# Altium schematic symbol library Chip_kz85.SchLib: 319 symbols (part 4 of 5)
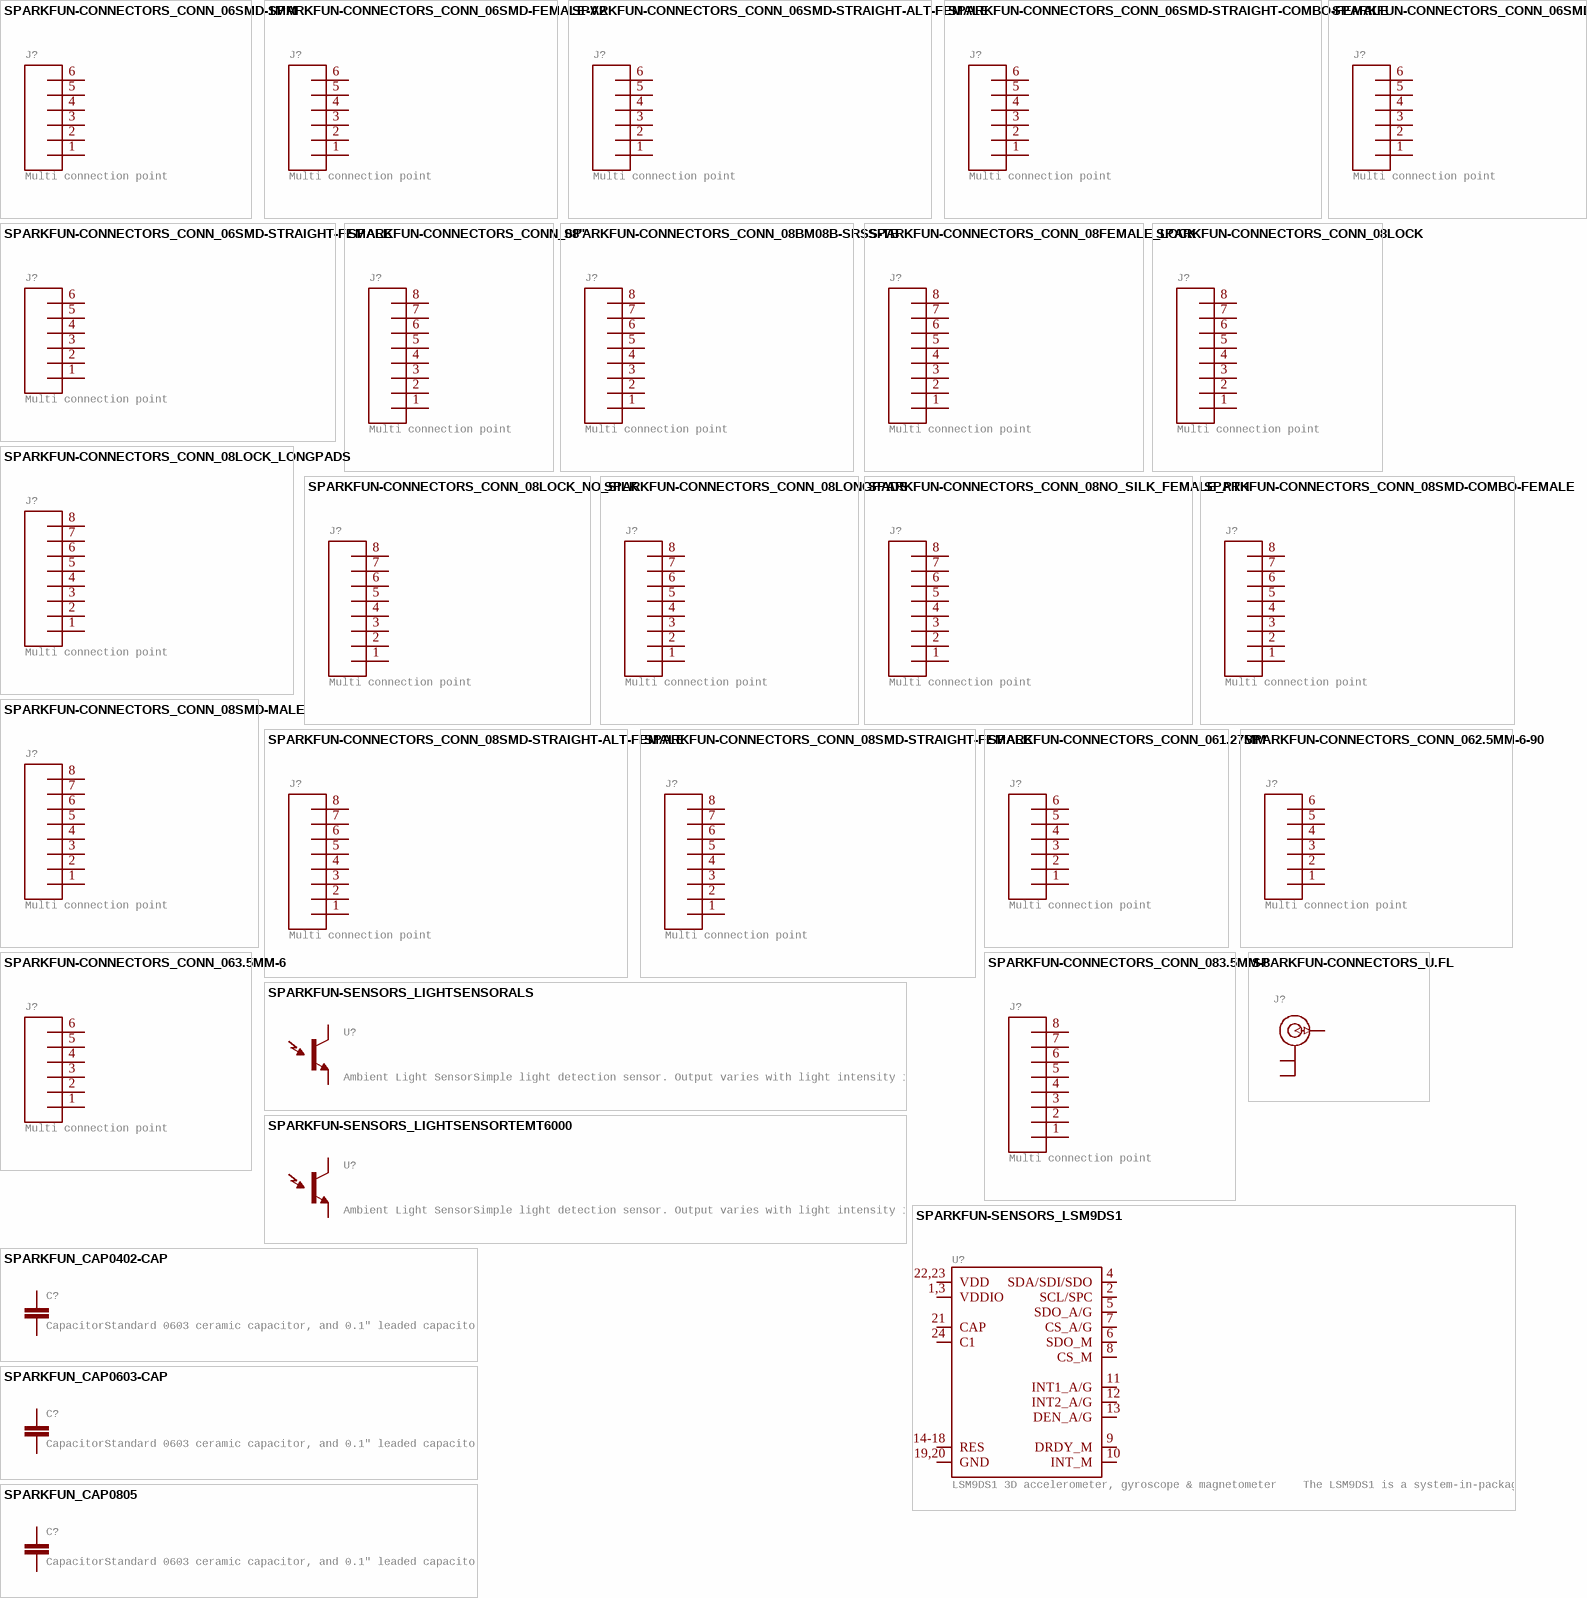
[diagram p14: symbols SPARKFUN-CONNECTORS_CONN_06SMD-1MM to SPARKFUN_CAP0805]

## SPARKFUN-CONNECTORS_CONN_06SMD-FEMALE-V2
designator J?, comment Multi connection point. Often used as Generic Header-pin footprint for 0.1 inch spaced/style header connections    On any of the 0.1 inch spaced packages, you can populate with these:  Break Away Headers - Straight (PRT-00116)   Break Away Male Headers - Right Angle (PRT-00553)   Female Headers (PRT-00115)   Break Away Headers - Machine Pin (PRT-00117)   Break Away Female Headers - Swiss Machine Pin (PRT-00743)   Arduino Stackable Header - 6 Pin (PRT-09280)        For SCREWTERMINALS and SPRING TERMINALS visit here:  Screw Terimnals on SparkFun.com (5mm/3.5mm/2.54mm spacing)       This device is also useful as a general connection point to wire up your design to another part of your project. Our various solder wires solder well into these plated through hole pads.  Hook-Up Wire - Assortment (Stranded, 22 AWG) (PRT-11375)   Hook-Up Wire - Assortment (Solid Core, 22 AWG) (PRT-11367)   View the entire wire category on our website here
GateName_1: G$1; SymbolName_1: SPARKFUN-CONNECTORS_CONN_06; DeviceName: SMD-FEMALE-V2; PROD_ID: CONN-09668; LibraryName: AmbaSat-1v1-01-NO-solar; DeviceSetName: SPARKFUN-CONNECTORS_CONN_06; Package: SPARKFUN-CONNECTORS_1X06-SMD-FEMALE
footprint SPARKFUN-CONNECTORS_1X06-SMD-FEMALE
pins: 1, 2, 3, 4, 5, 6

## SPARKFUN-CONNECTORS_CONN_06SMD-STRAIGHT-ALT-FEMALE
designator J?, comment Multi connection point. Often used as Generic Header-pin footprint for 0.1 inch spaced/style header connections    On any of the 0.1 inch spaced packages, you can populate with these:  Break Away Headers - Straight (PRT-00116)   Break Away Male Headers - Right Angle (PRT-00553)   Female Headers (PRT-00115)   Break Away Headers - Machine Pin (PRT-00117)   Break Away Female Headers - Swiss Machine Pin (PRT-00743)   Arduino Stackable Header - 6 Pin (PRT-09280)        For SCREWTERMINALS and SPRING TERMINALS visit here:  Screw Terimnals on SparkFun.com (5mm/3.5mm/2.54mm spacing)       This device is also useful as a general connection point to wire up your design to another part of your project. Our various solder wires solder well into these plated through hole pads.  Hook-Up Wire - Assortment (Stranded, 22 AWG) (PRT-11375)   Hook-Up Wire - Assortment (Solid Core, 22 AWG) (PRT-11367)   View the entire wire category on our website here
GateName_1: G$1; SymbolName_1: SPARKFUN-CONNECTORS_CONN_06; DeviceName: SMD-STRAIGHT-ALT-FEMALE; PROD_ID: CONN-10203; LibraryName: AmbaSat-1v1-01-NO-solar; DeviceSetName: SPARKFUN-CONNECTORS_CONN_06; Package: SPARKFUN-CONNECTORS_1X06_SMD_STRAIGHT_ALT
footprint SPARKFUN-CONNECTORS_1X06_SMD_STRAIGHT_ALT
pins: 1, 2, 3, 4, 5, 6

## SPARKFUN-CONNECTORS_CONN_06SMD-STRAIGHT-COMBO-FEMALE
designator J?, comment Multi connection point. Often used as Generic Header-pin footprint for 0.1 inch spaced/style header connections    On any of the 0.1 inch spaced packages, you can populate with these:  Break Away Headers - Straight (PRT-00116)   Break Away Male Headers - Right Angle (PRT-00553)   Female Headers (PRT-00115)   Break Away Headers - Machine Pin (PRT-00117)   Break Away Female Headers - Swiss Machine Pin (PRT-00743)   Arduino Stackable Header - 6 Pin (PRT-09280)        For SCREWTERMINALS and SPRING TERMINALS visit here:  Screw Terimnals on SparkFun.com (5mm/3.5mm/2.54mm spacing)       This device is also useful as a general connection point to wire up your design to another part of your project. Our various solder wires solder well into these plated through hole pads.  Hook-Up Wire - Assortment (Stranded, 22 AWG) (PRT-11375)   Hook-Up Wire - Assortment (Solid Core, 22 AWG) (PRT-11367)   View the entire wire category on our website here
GateName_1: G$1; SymbolName_1: SPARKFUN-CONNECTORS_CONN_06; DeviceName: SMD-STRAIGHT-COMBO-FEMALE; PROD_ID: CONN-10203; LibraryName: AmbaSat-1v1-01-NO-solar; DeviceSetName: SPARKFUN-CONNECTORS_CONN_06; Package: SPARKFUN-CONNECTORS_1X06_SMD_STRAIGHT_COMBO
footprint SPARKFUN-CONNECTORS_1X06_SMD_STRAIGHT_COMBO
pins: 1, 2, 3, 4, 5, 6

## SPARKFUN-CONNECTORS_CONN_06SMD-STRAIGHT-FEMALE
designator J?, comment Multi connection point. Often used as Generic Header-pin footprint for 0.1 inch spaced/style header connections    On any of the 0.1 inch spaced packages, you can populate with these:  Break Away Headers - Straight (PRT-00116)   Break Away Male Headers - Right Angle (PRT-00553)   Female Headers (PRT-00115)   Break Away Headers - Machine Pin (PRT-00117)   Break Away Female Headers - Swiss Machine Pin (PRT-00743)   Arduino Stackable Header - 6 Pin (PRT-09280)        For SCREWTERMINALS and SPRING TERMINALS visit here:  Screw Terimnals on SparkFun.com (5mm/3.5mm/2.54mm spacing)       This device is also useful as a general connection point to wire up your design to another part of your project. Our various solder wires solder well into these plated through hole pads.  Hook-Up Wire - Assortment (Stranded, 22 AWG) (PRT-11375)   Hook-Up Wire - Assortment (Solid Core, 22 AWG) (PRT-11367)   View the entire wire category on our website here
GateName_1: G$1; SymbolName_1: SPARKFUN-CONNECTORS_CONN_06; DeviceName: SMD-STRAIGHT-FEMALE; PROD_ID: CONN-10203; LibraryName: AmbaSat-1v1-01-NO-solar; DeviceSetName: SPARKFUN-CONNECTORS_CONN_06; Package: SPARKFUN-CONNECTORS_1X06_SMD_STRAIGHT
footprint SPARKFUN-CONNECTORS_1X06_SMD_STRAIGHT
pins: 1, 2, 3, 4, 5, 6

## SPARKFUN-CONNECTORS_CONN_06SMD_MALE
designator J?, comment Multi connection point. Often used as Generic Header-pin footprint for 0.1 inch spaced/style header connections    On any of the 0.1 inch spaced packages, you can populate with these:  Break Away Headers - Straight (PRT-00116)   Break Away Male Headers - Right Angle (PRT-00553)   Female Headers (PRT-00115)   Break Away Headers - Machine Pin (PRT-00117)   Break Away Female Headers - Swiss Machine Pin (PRT-00743)   Arduino Stackable Header - 6 Pin (PRT-09280)        For SCREWTERMINALS and SPRING TERMINALS visit here:  Screw Terimnals on SparkFun.com (5mm/3.5mm/2.54mm spacing)       This device is also useful as a general connection point to wire up your design to another part of your project. Our various solder wires solder well into these plated through hole pads.  Hook-Up Wire - Assortment (Stranded, 22 AWG) (PRT-11375)   Hook-Up Wire - Assortment (Solid Core, 22 AWG) (PRT-11367)   View the entire wire category on our website here
GateName_1: G$1; SymbolName_1: SPARKFUN-CONNECTORS_CONN_06; DeviceName: SMD_MALE; PROD_ID: CONN-11293; LibraryName: AmbaSat-1v1-01-NO-solar; DeviceSetName: SPARKFUN-CONNECTORS_CONN_06; Package: SPARKFUN-CONNECTORS_1X06_SMD_MALE
footprint SPARKFUN-CONNECTORS_1X06_SMD_MALE
pins: 1, 2, 3, 4, 5, 6

## SPARKFUN-CONNECTORS_CONN_08"
designator J?, comment Multi connection point. Often used as Generic Header-pin footprint for 0.1 inch spaced/style header connections    On any of the 0.1 inch spaced packages, you can populate with these:  Break Away Headers - Straight (PRT-00116)   Break Away Male Headers - Right Angle (PRT-00553)   Female Headers (PRT-00115)   Break Away Headers - Machine Pin (PRT-00117)   Break Away Female Headers - Swiss Machine Pin (PRT-00743)   Arduino Stackable Header - 8 Pin (PRT-09279)        For SCREWTERMINALS and SPRING TERMINALS visit here:  Screw Terimnals on SparkFun.com (5mm/3.5mm/2.54mm spacing)       This device is also useful as a general connection point to wire up your design to another part of your project. Our various solder wires solder well into these plated through hole pads.  Hook-Up Wire - Assortment (Stranded, 22 AWG) (PRT-11375)   Hook-Up Wire - Assortment (Solid Core, 22 AWG) (PRT-11367)   View the entire wire category on our website here          Special notes:     Molex polarized connector foot print use with SKU : PRT-08231 with associated crimp pins and housings. 1MM SMD Version SKU: PRT-10208    NOTES ON THE VARIANTS LOCK and LOCK_LONGPADS... This footprint was designed to help hold the alignment of a through-hole component (i.e.  6-pin header) while soldering it into place. You may notice that each hole has been shifted either up or down by 0.005 of an inch from it's more standard position (which is a perfectly straight line).  This slight alteration caused the pins (the squares in the middle) to touch the edges of the holes.  Because they are alternating, it causes a "brace" to hold the component in place.  0.005 has proven to be the perfect amount of "off-center" position when using our standard breakaway headers. Although looks a little odd when you look at the bare footprint, once you have a header in there, the alteration is very hard to notice.  Also,if you push a header all the way into place, it is covered up entirely on the bottom side.
GateName_1: G$1; SymbolName_1: SPARKFUN-CONNECTORS_CONN_08; DeviceName: "; PROD_ID: CONN-08438; LibraryName: AmbaSat-1v1-01-NO-solar; DeviceSetName: SPARKFUN-CONNECTORS_CONN_08; Package: SPARKFUN-CONNECTORS_1X08
footprint SPARKFUN-CONNECTORS_1X08
pins: 1, 2, 3, 4, 5, 6, 7, 8

## SPARKFUN-CONNECTORS_CONN_08BM08B-SRSS-TB
designator J?, comment Multi connection point. Often used as Generic Header-pin footprint for 0.1 inch spaced/style header connections    On any of the 0.1 inch spaced packages, you can populate with these:  Break Away Headers - Straight (PRT-00116)   Break Away Male Headers - Right Angle (PRT-00553)   Female Headers (PRT-00115)   Break Away Headers - Machine Pin (PRT-00117)   Break Away Female Headers - Swiss Machine Pin (PRT-00743)   Arduino Stackable Header - 8 Pin (PRT-09279)        For SCREWTERMINALS and SPRING TERMINALS visit here:  Screw Terimnals on SparkFun.com (5mm/3.5mm/2.54mm spacing)       This device is also useful as a general connection point to wire up your design to another part of your project. Our various solder wires solder well into these plated through hole pads.  Hook-Up Wire - Assortment (Stranded, 22 AWG) (PRT-11375)   Hook-Up Wire - Assortment (Solid Core, 22 AWG) (PRT-11367)   View the entire wire category on our website here          Special notes:     Molex polarized connector foot print use with SKU : PRT-08231 with associated crimp pins and housings. 1MM SMD Version SKU: PRT-10208    NOTES ON THE VARIANTS LOCK and LOCK_LONGPADS... This footprint was designed to help hold the alignment of a through-hole component (i.e.  6-pin header) while soldering it into place. You may notice that each hole has been shifted either up or down by 0.005 of an inch from it's more standard position (which is a perfectly straight line).  This slight alteration caused the pins (the squares in the middle) to touch the edges of the holes.  Because they are alternating, it causes a "brace" to hold the component in place.  0.005 has proven to be the perfect amount of "off-center" position when using our standard breakaway headers. Although looks a little odd when you look at the bare footprint, once you have a header in there, the alteration is very hard to notice.  Also,if you push a header all the way into place, it is covered up entirely on the bottom side.
GateName_1: G$1; SymbolName_1: SPARKFUN-CONNECTORS_CONN_08; DeviceName: BM08B-SRSS-TB; PROD_ID: CONN-10556; LibraryName: AmbaSat-1v1-01-NO-solar; DeviceSetName: SPARKFUN-CONNECTORS_CONN_08; Package: SPARKFUN-CONNECTORS_BM08B-SRSS-TB
footprint SPARKFUN-CONNECTORS_BM08B-SRSS-TB
pins: 1, 2, 3, 4, 5, 6, 7, 8

## SPARKFUN-CONNECTORS_CONN_08FEMALE_LOCK
designator J?, comment Multi connection point. Often used as Generic Header-pin footprint for 0.1 inch spaced/style header connections    On any of the 0.1 inch spaced packages, you can populate with these:  Break Away Headers - Straight (PRT-00116)   Break Away Male Headers - Right Angle (PRT-00553)   Female Headers (PRT-00115)   Break Away Headers - Machine Pin (PRT-00117)   Break Away Female Headers - Swiss Machine Pin (PRT-00743)   Arduino Stackable Header - 8 Pin (PRT-09279)        For SCREWTERMINALS and SPRING TERMINALS visit here:  Screw Terimnals on SparkFun.com (5mm/3.5mm/2.54mm spacing)       This device is also useful as a general connection point to wire up your design to another part of your project. Our various solder wires solder well into these plated through hole pads.  Hook-Up Wire - Assortment (Stranded, 22 AWG) (PRT-11375)   Hook-Up Wire - Assortment (Solid Core, 22 AWG) (PRT-11367)   View the entire wire category on our website here          Special notes:     Molex polarized connector foot print use with SKU : PRT-08231 with associated crimp pins and housings. 1MM SMD Version SKU: PRT-10208    NOTES ON THE VARIANTS LOCK and LOCK_LONGPADS... This footprint was designed to help hold the alignment of a through-hole component (i.e.  6-pin header) while soldering it into place. You may notice that each hole has been shifted either up or down by 0.005 of an inch from it's more standard position (which is a perfectly straight line).  This slight alteration caused the pins (the squares in the middle) to touch the edges of the holes.  Because they are alternating, it causes a "brace" to hold the component in place.  0.005 has proven to be the perfect amount of "off-center" position when using our standard breakaway headers. Although looks a little odd when you look at the bare footprint, once you have a header in there, the alteration is very hard to notice.  Also,if you push a header all the way into place, it is covered up entirely on the bottom side.
GateName_1: G$1; SymbolName_1: SPARKFUN-CONNECTORS_CONN_08; DeviceName: FEMALE_LOCK; PROD_ID: CONN-09233; LibraryName: AmbaSat-1v1-01-NO-solar; DeviceSetName: SPARKFUN-CONNECTORS_CONN_08; Package: SPARKFUN-CONNECTORS_1X08_FEMALE_LOCK; SF_ID: PRT-09279
footprint SPARKFUN-CONNECTORS_1X08_FEMALE_LOCK
pins: 1, 2, 3, 4, 5, 6, 7, 8

## SPARKFUN-CONNECTORS_CONN_08LOCK
designator J?, comment Multi connection point. Often used as Generic Header-pin footprint for 0.1 inch spaced/style header connections    On any of the 0.1 inch spaced packages, you can populate with these:  Break Away Headers - Straight (PRT-00116)   Break Away Male Headers - Right Angle (PRT-00553)   Female Headers (PRT-00115)   Break Away Headers - Machine Pin (PRT-00117)   Break Away Female Headers - Swiss Machine Pin (PRT-00743)   Arduino Stackable Header - 8 Pin (PRT-09279)        For SCREWTERMINALS and SPRING TERMINALS visit here:  Screw Terimnals on SparkFun.com (5mm/3.5mm/2.54mm spacing)       This device is also useful as a general connection point to wire up your design to another part of your project. Our various solder wires solder well into these plated through hole pads.  Hook-Up Wire - Assortment (Stranded, 22 AWG) (PRT-11375)   Hook-Up Wire - Assortment (Solid Core, 22 AWG) (PRT-11367)   View the entire wire category on our website here          Special notes:     Molex polarized connector foot print use with SKU : PRT-08231 with associated crimp pins and housings. 1MM SMD Version SKU: PRT-10208    NOTES ON THE VARIANTS LOCK and LOCK_LONGPADS... This footprint was designed to help hold the alignment of a through-hole component (i.e.  6-pin header) while soldering it into place. You may notice that each hole has been shifted either up or down by 0.005 of an inch from it's more standard position (which is a perfectly straight line).  This slight alteration caused the pins (the squares in the middle) to touch the edges of the holes.  Because they are alternating, it causes a "brace" to hold the component in place.  0.005 has proven to be the perfect amount of "off-center" position when using our standard breakaway headers. Although looks a little odd when you look at the bare footprint, once you have a header in there, the alteration is very hard to notice.  Also,if you push a header all the way into place, it is covered up entirely on the bottom side.
GateName_1: G$1; SymbolName_1: SPARKFUN-CONNECTORS_CONN_08; DeviceName: LOCK; LibraryName: AmbaSat-1v1-01-NO-solar; DeviceSetName: SPARKFUN-CONNECTORS_CONN_08; Package: SPARKFUN-CONNECTORS_1X08_LOCK
footprint SPARKFUN-CONNECTORS_1X08_LOCK
pins: 1, 2, 3, 4, 5, 6, 7, 8

## SPARKFUN-CONNECTORS_CONN_08LOCK_LONGPADS
designator J?, comment Multi connection point. Often used as Generic Header-pin footprint for 0.1 inch spaced/style header connections    On any of the 0.1 inch spaced packages, you can populate with these:  Break Away Headers - Straight (PRT-00116)   Break Away Male Headers - Right Angle (PRT-00553)   Female Headers (PRT-00115)   Break Away Headers - Machine Pin (PRT-00117)   Break Away Female Headers - Swiss Machine Pin (PRT-00743)   Arduino Stackable Header - 8 Pin (PRT-09279)        For SCREWTERMINALS and SPRING TERMINALS visit here:  Screw Terimnals on SparkFun.com (5mm/3.5mm/2.54mm spacing)       This device is also useful as a general connection point to wire up your design to another part of your project. Our various solder wires solder well into these plated through hole pads.  Hook-Up Wire - Assortment (Stranded, 22 AWG) (PRT-11375)   Hook-Up Wire - Assortment (Solid Core, 22 AWG) (PRT-11367)   View the entire wire category on our website here          Special notes:     Molex polarized connector foot print use with SKU : PRT-08231 with associated crimp pins and housings. 1MM SMD Version SKU: PRT-10208    NOTES ON THE VARIANTS LOCK and LOCK_LONGPADS... This footprint was designed to help hold the alignment of a through-hole component (i.e.  6-pin header) while soldering it into place. You may notice that each hole has been shifted either up or down by 0.005 of an inch from it's more standard position (which is a perfectly straight line).  This slight alteration caused the pins (the squares in the middle) to touch the edges of the holes.  Because they are alternating, it causes a "brace" to hold the component in place.  0.005 has proven to be the perfect amount of "off-center" position when using our standard breakaway headers. Although looks a little odd when you look at the bare footprint, once you have a header in there, the alteration is very hard to notice.  Also,if you push a header all the way into place, it is covered up entirely on the bottom side.
GateName_1: G$1; SymbolName_1: SPARKFUN-CONNECTORS_CONN_08; DeviceName: LOCK_LONGPADS; LibraryName: AmbaSat-1v1-01-NO-solar; DeviceSetName: SPARKFUN-CONNECTORS_CONN_08; Package: SPARKFUN-CONNECTORS_1X08_LOCK_LONGPADS
footprint SPARKFUN-CONNECTORS_1X08_LOCK_LONGPADS
pins: 1, 2, 3, 4, 5, 6, 7, 8

## SPARKFUN-CONNECTORS_CONN_08LOCK_NO_SILK
designator J?, comment Multi connection point. Often used as Generic Header-pin footprint for 0.1 inch spaced/style header connections    On any of the 0.1 inch spaced packages, you can populate with these:  Break Away Headers - Straight (PRT-00116)   Break Away Male Headers - Right Angle (PRT-00553)   Female Headers (PRT-00115)   Break Away Headers - Machine Pin (PRT-00117)   Break Away Female Headers - Swiss Machine Pin (PRT-00743)   Arduino Stackable Header - 8 Pin (PRT-09279)        For SCREWTERMINALS and SPRING TERMINALS visit here:  Screw Terimnals on SparkFun.com (5mm/3.5mm/2.54mm spacing)       This device is also useful as a general connection point to wire up your design to another part of your project. Our various solder wires solder well into these plated through hole pads.  Hook-Up Wire - Assortment (Stranded, 22 AWG) (PRT-11375)   Hook-Up Wire - Assortment (Solid Core, 22 AWG) (PRT-11367)   View the entire wire category on our website here          Special notes:     Molex polarized connector foot print use with SKU : PRT-08231 with associated crimp pins and housings. 1MM SMD Version SKU: PRT-10208    NOTES ON THE VARIANTS LOCK and LOCK_LONGPADS... This footprint was designed to help hold the alignment of a through-hole component (i.e.  6-pin header) while soldering it into place. You may notice that each hole has been shifted either up or down by 0.005 of an inch from it's more standard position (which is a perfectly straight line).  This slight alteration caused the pins (the squares in the middle) to touch the edges of the holes.  Because they are alternating, it causes a "brace" to hold the component in place.  0.005 has proven to be the perfect amount of "off-center" position when using our standard breakaway headers. Although looks a little odd when you look at the bare footprint, once you have a header in there, the alteration is very hard to notice.  Also,if you push a header all the way into place, it is covered up entirely on the bottom side.
GateName_1: G$1; SymbolName_1: SPARKFUN-CONNECTORS_CONN_08; DeviceName: LOCK_NO_SILK; LibraryName: AmbaSat-1v1-01-NO-solar; DeviceSetName: SPARKFUN-CONNECTORS_CONN_08; Package: SPARKFUN-CONNECTORS_1X08_LOCK_NO_SILK
footprint SPARKFUN-CONNECTORS_1X08_LOCK_NO_SILK
pins: 1, 2, 3, 4, 5, 6, 7, 8

## SPARKFUN-CONNECTORS_CONN_08LONGPADS
designator J?, comment Multi connection point. Often used as Generic Header-pin footprint for 0.1 inch spaced/style header connections    On any of the 0.1 inch spaced packages, you can populate with these:  Break Away Headers - Straight (PRT-00116)   Break Away Male Headers - Right Angle (PRT-00553)   Female Headers (PRT-00115)   Break Away Headers - Machine Pin (PRT-00117)   Break Away Female Headers - Swiss Machine Pin (PRT-00743)   Arduino Stackable Header - 8 Pin (PRT-09279)        For SCREWTERMINALS and SPRING TERMINALS visit here:  Screw Terimnals on SparkFun.com (5mm/3.5mm/2.54mm spacing)       This device is also useful as a general connection point to wire up your design to another part of your project. Our various solder wires solder well into these plated through hole pads.  Hook-Up Wire - Assortment (Stranded, 22 AWG) (PRT-11375)   Hook-Up Wire - Assortment (Solid Core, 22 AWG) (PRT-11367)   View the entire wire category on our website here          Special notes:     Molex polarized connector foot print use with SKU : PRT-08231 with associated crimp pins and housings. 1MM SMD Version SKU: PRT-10208    NOTES ON THE VARIANTS LOCK and LOCK_LONGPADS... This footprint was designed to help hold the alignment of a through-hole component (i.e.  6-pin header) while soldering it into place. You may notice that each hole has been shifted either up or down by 0.005 of an inch from it's more standard position (which is a perfectly straight line).  This slight alteration caused the pins (the squares in the middle) to touch the edges of the holes.  Because they are alternating, it causes a "brace" to hold the component in place.  0.005 has proven to be the perfect amount of "off-center" position when using our standard breakaway headers. Although looks a little odd when you look at the bare footprint, once you have a header in there, the alteration is very hard to notice.  Also,if you push a header all the way into place, it is covered up entirely on the bottom side.
GateName_1: G$1; SymbolName_1: SPARKFUN-CONNECTORS_CONN_08; DeviceName: LONGPADS; LibraryName: AmbaSat-1v1-01-NO-solar; DeviceSetName: SPARKFUN-CONNECTORS_CONN_08; Package: SPARKFUN-CONNECTORS_1X08_LONGPADS
footprint SPARKFUN-CONNECTORS_1X08_LONGPADS
pins: 1, 2, 3, 4, 5, 6, 7, 8

## SPARKFUN-CONNECTORS_CONN_08NO_SILK_FEMALE_PTH
designator J?, comment Multi connection point. Often used as Generic Header-pin footprint for 0.1 inch spaced/style header connections    On any of the 0.1 inch spaced packages, you can populate with these:  Break Away Headers - Straight (PRT-00116)   Break Away Male Headers - Right Angle (PRT-00553)   Female Headers (PRT-00115)   Break Away Headers - Machine Pin (PRT-00117)   Break Away Female Headers - Swiss Machine Pin (PRT-00743)   Arduino Stackable Header - 8 Pin (PRT-09279)        For SCREWTERMINALS and SPRING TERMINALS visit here:  Screw Terimnals on SparkFun.com (5mm/3.5mm/2.54mm spacing)       This device is also useful as a general connection point to wire up your design to another part of your project. Our various solder wires solder well into these plated through hole pads.  Hook-Up Wire - Assortment (Stranded, 22 AWG) (PRT-11375)   Hook-Up Wire - Assortment (Solid Core, 22 AWG) (PRT-11367)   View the entire wire category on our website here          Special notes:     Molex polarized connector foot print use with SKU : PRT-08231 with associated crimp pins and housings. 1MM SMD Version SKU: PRT-10208    NOTES ON THE VARIANTS LOCK and LOCK_LONGPADS... This footprint was designed to help hold the alignment of a through-hole component (i.e.  6-pin header) while soldering it into place. You may notice that each hole has been shifted either up or down by 0.005 of an inch from it's more standard position (which is a perfectly straight line).  This slight alteration caused the pins (the squares in the middle) to touch the edges of the holes.  Because they are alternating, it causes a "brace" to hold the component in place.  0.005 has proven to be the perfect amount of "off-center" position when using our standard breakaway headers. Although looks a little odd when you look at the bare footprint, once you have a header in there, the alteration is very hard to notice.  Also,if you push a header all the way into place, it is covered up entirely on the bottom side.
GateName_1: G$1; SymbolName_1: SPARKFUN-CONNECTORS_CONN_08; DeviceName: NO_SILK_FEMALE_PTH; PROD_ID: CONN-08438; LibraryName: AmbaSat-1v1-01-NO-solar; DeviceSetName: SPARKFUN-CONNECTORS_CONN_08; Package: SPARKFUN-CONNECTORS_1X08_NO_SILK
footprint SPARKFUN-CONNECTORS_1X08_NO_SILK
pins: 1, 2, 3, 4, 5, 6, 7, 8

## SPARKFUN-CONNECTORS_CONN_08SMD-COMBO-FEMALE
designator J?, comment Multi connection point. Often used as Generic Header-pin footprint for 0.1 inch spaced/style header connections    On any of the 0.1 inch spaced packages, you can populate with these:  Break Away Headers - Straight (PRT-00116)   Break Away Male Headers - Right Angle (PRT-00553)   Female Headers (PRT-00115)   Break Away Headers - Machine Pin (PRT-00117)   Break Away Female Headers - Swiss Machine Pin (PRT-00743)   Arduino Stackable Header - 8 Pin (PRT-09279)        For SCREWTERMINALS and SPRING TERMINALS visit here:  Screw Terimnals on SparkFun.com (5mm/3.5mm/2.54mm spacing)       This device is also useful as a general connection point to wire up your design to another part of your project. Our various solder wires solder well into these plated through hole pads.  Hook-Up Wire - Assortment (Stranded, 22 AWG) (PRT-11375)   Hook-Up Wire - Assortment (Solid Core, 22 AWG) (PRT-11367)   View the entire wire category on our website here          Special notes:     Molex polarized connector foot print use with SKU : PRT-08231 with associated crimp pins and housings. 1MM SMD Version SKU: PRT-10208    NOTES ON THE VARIANTS LOCK and LOCK_LONGPADS... This footprint was designed to help hold the alignment of a through-hole component (i.e.  6-pin header) while soldering it into place. You may notice that each hole has been shifted either up or down by 0.005 of an inch from it's more standard position (which is a perfectly straight line).  This slight alteration caused the pins (the squares in the middle) to touch the edges of the holes.  Because they are alternating, it causes a "brace" to hold the component in place.  0.005 has proven to be the perfect amount of "off-center" position when using our standard breakaway headers. Although looks a little odd when you look at the bare footprint, once you have a header in there, the alteration is very hard to notice.  Also,if you push a header all the way into place, it is covered up entirely on the bottom side.
GateName_1: G$1; SymbolName_1: SPARKFUN-CONNECTORS_CONN_08; DeviceName: SMD-COMBO-FEMALE; PROD_ID: CONN-10204; SF_ID: PRT-11543; LibraryName: AmbaSat-1v1-01-NO-solar; DeviceSetName: SPARKFUN-CONNECTORS_CONN_08; Package: SPARKFUN-CONNECTORS_1X08_SMD_COMBINED
footprint SPARKFUN-CONNECTORS_1X08_SMD_COMBINED
pins: 1, 2, 3, 4, 5, 6, 7, 8

## SPARKFUN-CONNECTORS_CONN_08SMD-MALE
designator J?, comment Multi connection point. Often used as Generic Header-pin footprint for 0.1 inch spaced/style header connections    On any of the 0.1 inch spaced packages, you can populate with these:  Break Away Headers - Straight (PRT-00116)   Break Away Male Headers - Right Angle (PRT-00553)   Female Headers (PRT-00115)   Break Away Headers - Machine Pin (PRT-00117)   Break Away Female Headers - Swiss Machine Pin (PRT-00743)   Arduino Stackable Header - 8 Pin (PRT-09279)        For SCREWTERMINALS and SPRING TERMINALS visit here:  Screw Terimnals on SparkFun.com (5mm/3.5mm/2.54mm spacing)       This device is also useful as a general connection point to wire up your design to another part of your project. Our various solder wires solder well into these plated through hole pads.  Hook-Up Wire - Assortment (Stranded, 22 AWG) (PRT-11375)   Hook-Up Wire - Assortment (Solid Core, 22 AWG) (PRT-11367)   View the entire wire category on our website here          Special notes:     Molex polarized connector foot print use with SKU : PRT-08231 with associated crimp pins and housings. 1MM SMD Version SKU: PRT-10208    NOTES ON THE VARIANTS LOCK and LOCK_LONGPADS... This footprint was designed to help hold the alignment of a through-hole component (i.e.  6-pin header) while soldering it into place. You may notice that each hole has been shifted either up or down by 0.005 of an inch from it's more standard position (which is a perfectly straight line).  This slight alteration caused the pins (the squares in the middle) to touch the edges of the holes.  Because they are alternating, it causes a "brace" to hold the component in place.  0.005 has proven to be the perfect amount of "off-center" position when using our standard breakaway headers. Although looks a little odd when you look at the bare footprint, once you have a header in there, the alteration is very hard to notice.  Also,if you push a header all the way into place, it is covered up entirely on the bottom side.
GateName_1: G$1; SymbolName_1: SPARKFUN-CONNECTORS_CONN_08; DeviceName: SMD-MALE; PROD_ID: CONN-11292; SF_ID: PRT-11541; LibraryName: AmbaSat-1v1-01-NO-solar; DeviceSetName: SPARKFUN-CONNECTORS_CONN_08; Package: SPARKFUN-CONNECTORS_1X08_SMD_MALE
footprint SPARKFUN-CONNECTORS_1X08_SMD_MALE
pins: 1, 2, 3, 4, 5, 6, 7, 8

## SPARKFUN-CONNECTORS_CONN_08SMD-STRAIGHT-ALT-FEMALE
designator J?, comment Multi connection point. Often used as Generic Header-pin footprint for 0.1 inch spaced/style header connections    On any of the 0.1 inch spaced packages, you can populate with these:  Break Away Headers - Straight (PRT-00116)   Break Away Male Headers - Right Angle (PRT-00553)   Female Headers (PRT-00115)   Break Away Headers - Machine Pin (PRT-00117)   Break Away Female Headers - Swiss Machine Pin (PRT-00743)   Arduino Stackable Header - 8 Pin (PRT-09279)        For SCREWTERMINALS and SPRING TERMINALS visit here:  Screw Terimnals on SparkFun.com (5mm/3.5mm/2.54mm spacing)       This device is also useful as a general connection point to wire up your design to another part of your project. Our various solder wires solder well into these plated through hole pads.  Hook-Up Wire - Assortment (Stranded, 22 AWG) (PRT-11375)   Hook-Up Wire - Assortment (Solid Core, 22 AWG) (PRT-11367)   View the entire wire category on our website here          Special notes:     Molex polarized connector foot print use with SKU : PRT-08231 with associated crimp pins and housings. 1MM SMD Version SKU: PRT-10208    NOTES ON THE VARIANTS LOCK and LOCK_LONGPADS... This footprint was designed to help hold the alignment of a through-hole component (i.e.  6-pin header) while soldering it into place. You may notice that each hole has been shifted either up or down by 0.005 of an inch from it's more standard position (which is a perfectly straight line).  This slight alteration caused the pins (the squares in the middle) to touch the edges of the holes.  Because they are alternating, it causes a "brace" to hold the component in place.  0.005 has proven to be the perfect amount of "off-center" position when using our standard breakaway headers. Although looks a little odd when you look at the bare footprint, once you have a header in there, the alteration is very hard to notice.  Also,if you push a header all the way into place, it is covered up entirely on the bottom side.
GateName_1: G$1; SymbolName_1: SPARKFUN-CONNECTORS_CONN_08; DeviceName: SMD-STRAIGHT-ALT-FEMALE; PROD_ID: CONN-10204; SF_ID: PRT-11543; LibraryName: AmbaSat-1v1-01-NO-solar; DeviceSetName: SPARKFUN-CONNECTORS_CONN_08; Package: SPARKFUN-CONNECTORS_1X08_SMD_ALT
footprint SPARKFUN-CONNECTORS_1X08_SMD_ALT
pins: 1, 2, 3, 4, 5, 6, 7, 8

## SPARKFUN-CONNECTORS_CONN_08SMD-STRAIGHT-FEMALE
designator J?, comment Multi connection point. Often used as Generic Header-pin footprint for 0.1 inch spaced/style header connections    On any of the 0.1 inch spaced packages, you can populate with these:  Break Away Headers - Straight (PRT-00116)   Break Away Male Headers - Right Angle (PRT-00553)   Female Headers (PRT-00115)   Break Away Headers - Machine Pin (PRT-00117)   Break Away Female Headers - Swiss Machine Pin (PRT-00743)   Arduino Stackable Header - 8 Pin (PRT-09279)        For SCREWTERMINALS and SPRING TERMINALS visit here:  Screw Terimnals on SparkFun.com (5mm/3.5mm/2.54mm spacing)       This device is also useful as a general connection point to wire up your design to another part of your project. Our various solder wires solder well into these plated through hole pads.  Hook-Up Wire - Assortment (Stranded, 22 AWG) (PRT-11375)   Hook-Up Wire - Assortment (Solid Core, 22 AWG) (PRT-11367)   View the entire wire category on our website here          Special notes:     Molex polarized connector foot print use with SKU : PRT-08231 with associated crimp pins and housings. 1MM SMD Version SKU: PRT-10208    NOTES ON THE VARIANTS LOCK and LOCK_LONGPADS... This footprint was designed to help hold the alignment of a through-hole component (i.e.  6-pin header) while soldering it into place. You may notice that each hole has been shifted either up or down by 0.005 of an inch from it's more standard position (which is a perfectly straight line).  This slight alteration caused the pins (the squares in the middle) to touch the edges of the holes.  Because they are alternating, it causes a "brace" to hold the component in place.  0.005 has proven to be the perfect amount of "off-center" position when using our standard breakaway headers. Although looks a little odd when you look at the bare footprint, once you have a header in there, the alteration is very hard to notice.  Also,if you push a header all the way into place, it is covered up entirely on the bottom side.
GateName_1: G$1; SymbolName_1: SPARKFUN-CONNECTORS_CONN_08; DeviceName: SMD-STRAIGHT-FEMALE; PROD_ID: CONN-10204; SF_ID: PRT-11543; LibraryName: AmbaSat-1v1-01-NO-solar; DeviceSetName: SPARKFUN-CONNECTORS_CONN_08; Package: SPARKFUN-CONNECTORS_1X08_SMD
footprint SPARKFUN-CONNECTORS_1X08_SMD
pins: 1, 2, 3, 4, 5, 6, 7, 8

## SPARKFUN-CONNECTORS_CONN_061.27MM
designator J?, comment Multi connection point. Often used as Generic Header-pin footprint for 0.1 inch spaced/style header connections    On any of the 0.1 inch spaced packages, you can populate with these:  Break Away Headers - Straight (PRT-00116)   Break Away Male Headers - Right Angle (PRT-00553)   Female Headers (PRT-00115)   Break Away Headers - Machine Pin (PRT-00117)   Break Away Female Headers - Swiss Machine Pin (PRT-00743)   Arduino Stackable Header - 6 Pin (PRT-09280)        For SCREWTERMINALS and SPRING TERMINALS visit here:  Screw Terimnals on SparkFun.com (5mm/3.5mm/2.54mm spacing)       This device is also useful as a general connection point to wire up your design to another part of your project. Our various solder wires solder well into these plated through hole pads.  Hook-Up Wire - Assortment (Stranded, 22 AWG) (PRT-11375)   Hook-Up Wire - Assortment (Solid Core, 22 AWG) (PRT-11367)   View the entire wire category on our website here
GateName_1: G$1; SymbolName_1: SPARKFUN-CONNECTORS_CONN_06; DeviceName: 1.27MM; LibraryName: AmbaSat-1v1-01-NO-solar; DeviceSetName: SPARKFUN-CONNECTORS_CONN_06; Package: SPARKFUN-CONNECTORS_1X06_1.27MM
footprint SPARKFUN-CONNECTORS_1X06_1.27MM
pins: 1, 2, 3, 4, 5, 6

## SPARKFUN-CONNECTORS_CONN_062.5MM-6-90
designator J?, comment Multi connection point. Often used as Generic Header-pin footprint for 0.1 inch spaced/style header connections    On any of the 0.1 inch spaced packages, you can populate with these:  Break Away Headers - Straight (PRT-00116)   Break Away Male Headers - Right Angle (PRT-00553)   Female Headers (PRT-00115)   Break Away Headers - Machine Pin (PRT-00117)   Break Away Female Headers - Swiss Machine Pin (PRT-00743)   Arduino Stackable Header - 6 Pin (PRT-09280)        For SCREWTERMINALS and SPRING TERMINALS visit here:  Screw Terimnals on SparkFun.com (5mm/3.5mm/2.54mm spacing)       This device is also useful as a general connection point to wire up your design to another part of your project. Our various solder wires solder well into these plated through hole pads.  Hook-Up Wire - Assortment (Stranded, 22 AWG) (PRT-11375)   Hook-Up Wire - Assortment (Solid Core, 22 AWG) (PRT-11367)   View the entire wire category on our website here
GateName_1: G$1; SymbolName_1: SPARKFUN-CONNECTORS_CONN_06; DeviceName: 2.5MM-6-90; LibraryName: AmbaSat-1v1-01-NO-solar; DeviceSetName: SPARKFUN-CONNECTORS_CONN_06; Package: SPARKFUN-CONNECTORS_1X06_SCREW_TERMINAL_BLOCK
footprint SPARKFUN-CONNECTORS_1X06_SCREW_TERMINAL_BLOCK
pins: 1, 2, 3, 4, 5, 6

## SPARKFUN-CONNECTORS_CONN_063.5MM-6
designator J?, comment Multi connection point. Often used as Generic Header-pin footprint for 0.1 inch spaced/style header connections    On any of the 0.1 inch spaced packages, you can populate with these:  Break Away Headers - Straight (PRT-00116)   Break Away Male Headers - Right Angle (PRT-00553)   Female Headers (PRT-00115)   Break Away Headers - Machine Pin (PRT-00117)   Break Away Female Headers - Swiss Machine Pin (PRT-00743)   Arduino Stackable Header - 6 Pin (PRT-09280)        For SCREWTERMINALS and SPRING TERMINALS visit here:  Screw Terimnals on SparkFun.com (5mm/3.5mm/2.54mm spacing)       This device is also useful as a general connection point to wire up your design to another part of your project. Our various solder wires solder well into these plated through hole pads.  Hook-Up Wire - Assortment (Stranded, 22 AWG) (PRT-11375)   Hook-Up Wire - Assortment (Solid Core, 22 AWG) (PRT-11367)   View the entire wire category on our website here
GateName_1: G$1; SymbolName_1: SPARKFUN-CONNECTORS_CONN_06; DeviceName: 3.5MM-6; LibraryName: AmbaSat-1v1-01-NO-solar; DeviceSetName: SPARKFUN-CONNECTORS_CONN_06; Package: SPARKFUN-CONNECTORS_SCREWTERMINAL-3.5MM-6
footprint SPARKFUN-CONNECTORS_SCREWTERMINAL-3.5MM-6
pins: 1, 2, 3, 4, 5, 6

## SPARKFUN-CONNECTORS_CONN_083.5MM-8
designator J?, comment Multi connection point. Often used as Generic Header-pin footprint for 0.1 inch spaced/style header connections    On any of the 0.1 inch spaced packages, you can populate with these:  Break Away Headers - Straight (PRT-00116)   Break Away Male Headers - Right Angle (PRT-00553)   Female Headers (PRT-00115)   Break Away Headers - Machine Pin (PRT-00117)   Break Away Female Headers - Swiss Machine Pin (PRT-00743)   Arduino Stackable Header - 8 Pin (PRT-09279)        For SCREWTERMINALS and SPRING TERMINALS visit here:  Screw Terimnals on SparkFun.com (5mm/3.5mm/2.54mm spacing)       This device is also useful as a general connection point to wire up your design to another part of your project. Our various solder wires solder well into these plated through hole pads.  Hook-Up Wire - Assortment (Stranded, 22 AWG) (PRT-11375)   Hook-Up Wire - Assortment (Solid Core, 22 AWG) (PRT-11367)   View the entire wire category on our website here          Special notes:     Molex polarized connector foot print use with SKU : PRT-08231 with associated crimp pins and housings. 1MM SMD Version SKU: PRT-10208    NOTES ON THE VARIANTS LOCK and LOCK_LONGPADS... This footprint was designed to help hold the alignment of a through-hole component (i.e.  6-pin header) while soldering it into place. You may notice that each hole has been shifted either up or down by 0.005 of an inch from it's more standard position (which is a perfectly straight line).  This slight alteration caused the pins (the squares in the middle) to touch the edges of the holes.  Because they are alternating, it causes a "brace" to hold the component in place.  0.005 has proven to be the perfect amount of "off-center" position when using our standard breakaway headers. Although looks a little odd when you look at the bare footprint, once you have a header in there, the alteration is very hard to notice.  Also,if you push a header all the way into place, it is covered up entirely on the bottom side.
GateName_1: G$1; SymbolName_1: SPARKFUN-CONNECTORS_CONN_08; DeviceName: 3.5MM-8; LibraryName: AmbaSat-1v1-01-NO-solar; DeviceSetName: SPARKFUN-CONNECTORS_CONN_08; Package: SPARKFUN-CONNECTORS_SCREWTERMINAL-3.5MM-8
footprint SPARKFUN-CONNECTORS_SCREWTERMINAL-3.5MM-8
pins: 1, 2, 3, 4, 5, 6, 7, 8

## SPARKFUN-CONNECTORS_U.FL
designator J?, comment SMD Antenna Connector - U.FL    2mm height, 3.0mm x 3.0mm receptacle size.    SparkFun Products: SparkFun WiFi Shield - ESP8266  SparkFun ESP8266 Thing  SparkFun MiniGen - Pro Mini Signal Generator Shield  (value not drawn)
GateName_1: G$1; SymbolName_1: SPARKFUN-CONNECTORS_U.FL; PROD_ID: CONN-09193; SF_ID: WRL-09144; LibraryName: AmbaSat-1 Satellite; DeviceSetName: SPARKFUN-CONNECTORS_U.FL; Package: SPARKFUN-CONNECTORS_U.FL
footprint SPARKFUN-CONNECTORS_U-FL
pins: 1 GND@0 (io), 2 GND@1 (io), FEED SIGNAL (io)

## SPARKFUN-SENSORS_LIGHTSENSORALS
designator U?, comment Ambient Light SensorSimple light detection sensor. Output varies with light intensity input. Spark Fun Electronics SKU : COM-08348
GateName_1: G$1; SymbolName_1: SPARKFUN-SENSORS_LIGHTSENSOR; DeviceName: ALS; PROD_ID: IC-11836; LibraryName: Sprite_CC1310_Development; DeviceSetName: SPARKFUN-SENSORS_LIGHTSENSOR; Package: SPARKFUN-SENSORS_ALS-PT19
footprint SPARKFUN-SENSORS_ALS-PT19
pins: C C1, E E1

## SPARKFUN-SENSORS_LIGHTSENSORTEMT6000
designator U?, comment Ambient Light SensorSimple light detection sensor. Output varies with light intensity input. Spark Fun Electronics SKU : COM-08348
GateName_1: G$1; SymbolName_1: SPARKFUN-SENSORS_LIGHTSENSOR; DeviceName: TEMT6000; LibraryName: Sprite_CC1310_Development; DeviceSetName: SPARKFUN-SENSORS_LIGHTSENSOR; Package: SPARKFUN-SENSORS_TEMT6000-SEN
footprint SPARKFUN-SENSORS_TEMT6000-SEN
pins: COLLECTOR C1, EMITTER E1

## SPARKFUN-SENSORS_LSM9DS1
designator U?, comment LSM9DS1 3D accelerometer, gyroscope & magnetometer    The LSM9DS1 is a system-in-package featuring a 3D digital linear acceleration sensor, a 3D digital angular rate sensor, and a 3D digital magnetic sensor.   The LSM9DS1 has a linear acceleration full scale of Â±2g/Â±4g/Â±8/Â±16 g, a magnetic field full scale of Â±4/Â±8/Â±12/Â±16 gauss and an angular rate of Â±245/Â±500/Â±2000 dps.   The LSM9DS1 includes an I2 C serial bus interface supporting standard and fast mode (100 kHz and 400 kHz) and an SPI serial standard interface.   Magnetic, accelerometer and gyroscope sensing can be enabled or set in power-down mode separately for smart power management.   The LSM9DS1 is available in a plastic land grid array package (LGA) and it is guaranteed to operate over an extended temperature range from -40 Â°C to +85 Â°C.
GateName_1: G$1; SymbolName_1: SPARKFUN-SENSORS_LSM9DS1; PROD_ID: IC-12536; LibraryName: Sprite_CC1310_Development; DeviceSetName: SPARKFUN-SENSORS_LSM9DS1; Package: SPARKFUN-SENSORS_LGA24-8X4
footprint SPARKFUN-SENSORS_LGA24-8X4
pins: 1,3 VDDIO (io), 2 SCL/SPC (io), 4 SDA/SDI/SDO (io), 5 SDO_A/G (io), 6 SDO_M (io), 7 CS_A/G (io), 8 CS_M (io), 9 DRDY_M (io), 10 INT_M (io), 11 INT1_A/G (io), 12 INT2_A/G (io), 13 DEN_A/G (io), 14-18 RES (io), 19,20 GND (io), 21 CAP (io), 22,23 VDD (io), 24 C1 (io)

## SPARKFUN_CAP0402-CAP
designator C?, comment CapacitorStandard 0603 ceramic capacitor, and 0.1" leaded capacitor.
GateName_1: G$1; SymbolName_1: SPARKFUN_CAP; DeviceName: 0402-CAP; LibraryName: Sprite_CC1310_Development; DeviceSetName: SPARKFUN_CAP; Package: SPARKFUN_0402-CAP
footprint SPARKFUN_0402-CAP
pins: 1, 2

## SPARKFUN_CAP0603-CAP
designator C?, comment CapacitorStandard 0603 ceramic capacitor, and 0.1" leaded capacitor.
GateName_1: G$1; SymbolName_1: SPARKFUN_CAP; DeviceName: 0603-CAP; LibraryName: Sprite_CC1310_Development; DeviceSetName: SPARKFUN_CAP; Package: SPARKFUN_0603-CAP
footprint SPARKFUN_0603-CAP
pins: 1, 2

## SPARKFUN_CAP0805
designator C?, comment CapacitorStandard 0603 ceramic capacitor, and 0.1" leaded capacitor.
GateName_1: G$1; SymbolName_1: SPARKFUN_CAP; DeviceName: 0805; LibraryName: Sprite_CC1310_Development; DeviceSetName: SPARKFUN_CAP; Package: SPARKFUN_0805
footprint SPARKFUN_0805
pins: 1, 2

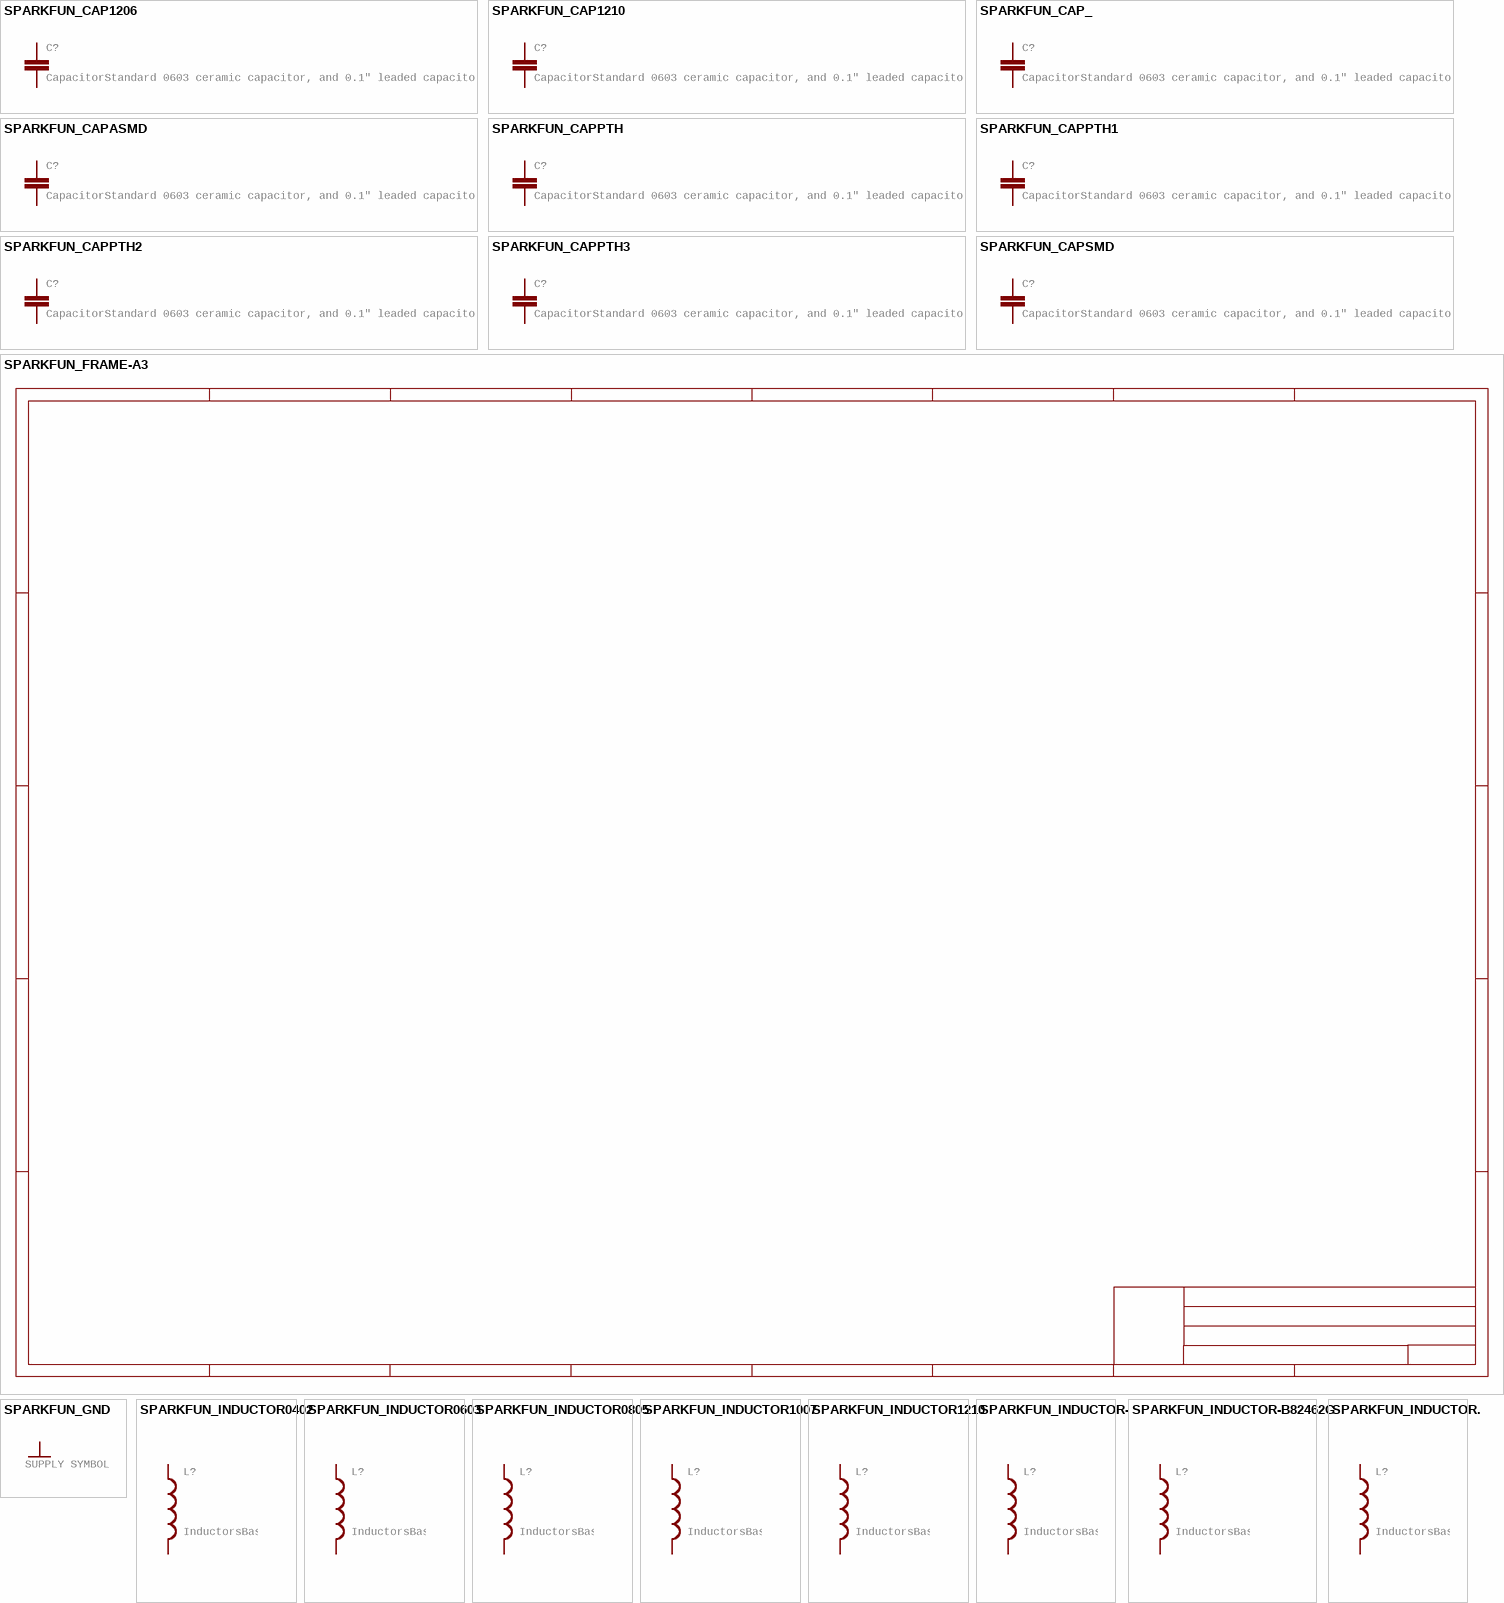
[diagram p9: symbols SPARKFUN_CAP1206 to SPARKFUN_INDUCTOR.]

## SPARKFUN_CAP1206
designator C?, comment CapacitorStandard 0603 ceramic capacitor, and 0.1" leaded capacitor.
GateName_1: G$1; SymbolName_1: SPARKFUN_CAP; DeviceName: 1206; LibraryName: Sprite_CC1310_Development; DeviceSetName: SPARKFUN_CAP; Package: SPARKFUN_1206
footprint SPARKFUN_1206
pins: 1, 2

## SPARKFUN_CAP1210
designator C?, comment CapacitorStandard 0603 ceramic capacitor, and 0.1" leaded capacitor.
GateName_1: G$1; SymbolName_1: SPARKFUN_CAP; DeviceName: 1210; LibraryName: Sprite_CC1310_Development; DeviceSetName: SPARKFUN_CAP; Package: SPARKFUN_1210
footprint SPARKFUN_1210
pins: 1, 2

## SPARKFUN_CAP_
designator C?, comment CapacitorStandard 0603 ceramic capacitor, and 0.1" leaded capacitor.
GateName_1: G$1; SymbolName_1: SPARKFUN_CAP; DeviceName: _; LibraryName: Sprite_CC1310_Development; DeviceSetName: SPARKFUN_CAP; Package: SPARKFUN_AXIAL-5MM
footprint SPARKFUN_AXIAL-5MM
pins: P$1 1, P$2 2

## SPARKFUN_CAPASMD
designator C?, comment CapacitorStandard 0603 ceramic capacitor, and 0.1" leaded capacitor.
GateName_1: G$1; SymbolName_1: SPARKFUN_CAP; DeviceName: ASMD; LibraryName: Sprite_CC1310_Development; DeviceSetName: SPARKFUN_CAP; Package: SPARKFUN_CTZ3
footprint SPARKFUN_CTZ3
pins: + 1, - 2

## SPARKFUN_CAPPTH
designator C?, comment CapacitorStandard 0603 ceramic capacitor, and 0.1" leaded capacitor.
GateName_1: G$1; SymbolName_1: SPARKFUN_CAP; DeviceName: PTH; LibraryName: Sprite_CC1310_Development; DeviceSetName: SPARKFUN_CAP; Package: SPARKFUN_CAP-PTH-SMALL
footprint SPARKFUN_CAP-PTH-SMALL
pins: 1, 2

## SPARKFUN_CAPPTH1
designator C?, comment CapacitorStandard 0603 ceramic capacitor, and 0.1" leaded capacitor.
GateName_1: G$1; SymbolName_1: SPARKFUN_CAP; DeviceName: PTH1; LibraryName: Sprite_CC1310_Development; DeviceSetName: SPARKFUN_CAP; Package: SPARKFUN_CAP-PTH-5MM
footprint SPARKFUN_CAP-PTH-5MM
pins: 1, 2

## SPARKFUN_CAPPTH2
designator C?, comment CapacitorStandard 0603 ceramic capacitor, and 0.1" leaded capacitor.
GateName_1: G$1; SymbolName_1: SPARKFUN_CAP; DeviceName: PTH2; LibraryName: Sprite_CC1310_Development; DeviceSetName: SPARKFUN_CAP; Package: SPARKFUN_CAP-PTH-SMALL2
footprint SPARKFUN_CAP-PTH-SMALL2
pins: 1, 2

## SPARKFUN_CAPPTH3
designator C?, comment CapacitorStandard 0603 ceramic capacitor, and 0.1" leaded capacitor.
GateName_1: G$1; SymbolName_1: SPARKFUN_CAP; DeviceName: PTH3; LibraryName: Sprite_CC1310_Development; DeviceSetName: SPARKFUN_CAP; Package: SPARKFUN_CAP-PTH-LARGE
footprint SPARKFUN_CAP-PTH-LARGE
pins: 1, 2

## SPARKFUN_CAPSMD
designator C?, comment CapacitorStandard 0603 ceramic capacitor, and 0.1" leaded capacitor.
GateName_1: G$1; SymbolName_1: SPARKFUN_CAP; DeviceName: SMD; LibraryName: Sprite_CC1310_Development; DeviceSetName: SPARKFUN_CAP; Package: SPARKFUN_GRM43D
footprint SPARKFUN_GRM43D
pins: A 1, C 2

## SPARKFUN_FRAME-A3
designator FRAME?, comment Schematic Frame   A3 Larger Frame  (value not drawn)
GateName_1: G$1; SymbolName_1: SPARKFUN_A3L-LOC; DeviceSetName: SPARKFUN_FRAME-A3; LibraryName: Sprite_CC1310_Development

## SPARKFUN_GND
designator GND?, comment SUPPLY SYMBOL
GateName_1: 1; SymbolName_1: SPARKFUN_GND; LibraryName: Sprite_CC1310_Development; DeviceSetName: SPARKFUN_GND
pins: ?1 GND (power)

## SPARKFUN_INDUCTOR0402
designator L?, comment InductorsBasic Inductor/Choke - 0603 and 1206. Footprints are not proven and vary greatly between part numbers.
GateName_1: G$1; SymbolName_1: SPARKFUN_INDUCTOR; DeviceName: 0402; LibraryName: Sprite_CC1310_Development; DeviceSetName: SPARKFUN_INDUCTOR; Package: SPARKFUN_C0402
footprint SPARKFUN_C0402
pins: 1, 2

## SPARKFUN_INDUCTOR0603
designator L?, comment InductorsBasic Inductor/Choke - 0603 and 1206. Footprints are not proven and vary greatly between part numbers.
GateName_1: G$1; SymbolName_1: SPARKFUN_INDUCTOR; DeviceName: 0603; LibraryName: Sprite_CC1310_Development; DeviceSetName: SPARKFUN_INDUCTOR; Package: SPARKFUN_0603
footprint SPARKFUN_0603
pins: 1, 2

## SPARKFUN_INDUCTOR0805
designator L?, comment InductorsBasic Inductor/Choke - 0603 and 1206. Footprints are not proven and vary greatly between part numbers.
GateName_1: G$1; SymbolName_1: SPARKFUN_INDUCTOR; DeviceName: 0805; LibraryName: Sprite_CC1310_Development; DeviceSetName: SPARKFUN_INDUCTOR; Package: SPARKFUN_0805
footprint SPARKFUN_0805
pins: 1, 2

## SPARKFUN_INDUCTOR1007
designator L?, comment InductorsBasic Inductor/Choke - 0603 and 1206. Footprints are not proven and vary greatly between part numbers.
GateName_1: G$1; SymbolName_1: SPARKFUN_INDUCTOR; DeviceName: 1007; LibraryName: Sprite_CC1310_Development; DeviceSetName: SPARKFUN_INDUCTOR; Package: SPARKFUN_1007
footprint SPARKFUN_1007
pins: 1, 2

## SPARKFUN_INDUCTOR1210
designator L?, comment InductorsBasic Inductor/Choke - 0603 and 1206. Footprints are not proven and vary greatly between part numbers.
GateName_1: G$1; SymbolName_1: SPARKFUN_INDUCTOR; DeviceName: 1210; LibraryName: Sprite_CC1310_Development; DeviceSetName: SPARKFUN_INDUCTOR; Package: SPARKFUN_1210
footprint SPARKFUN_1210
pins: 1, 2